# Altium footprint library SD.PcbLib: 1 footprints
Each footprint in its own frame and in the unit in brackets; x right, y up, seen from the top. Pads: shape width x height; smd on the part's side, far side on the other; paste and mask are expansions set on the pad; w line width, h text height; cw(c..) or ccw(c..) is an arc to the next point about the centre after c.
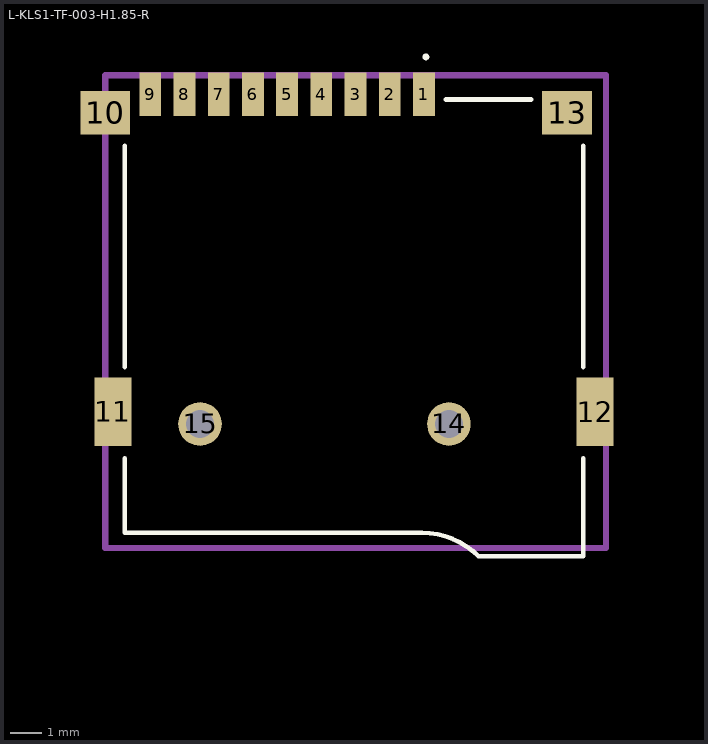
[diagram p0: the footprint, top view; thin cyan lines are the x and y axes]

## L-KLS1-TF-003-H1.85-R [mm]
pads (15):
  rect 0.7x1.4 smd: 1(2249.901,2258.251) 2(2248.801,2258.251) 3(2247.701,2258.251) 4(2246.601,2258.251) 5(2245.501,2258.251) 6(2244.401,2258.251) 7(2243.301,2258.251) 8(2242.201,2258.251) 9(2241.101,2258.251)
  rect 1.6x1.4 smd: 10(2239.651,2257.651) 13(2254.501,2257.651)
  rect 1.2x2.2 smd: 11(2239.901,2248.051) 12(2255.401,2248.051)
  round 1.4 hole 0.9: 14(2250.701,2247.651) 15(2242.701,2247.651)
Top Overlay:
  circle w0.15: c2249.962,2259.453 r0.034
  lines w0.15: 2240.276,2246.547 2240.276,2244.151 2247.401,2244.151 2249.84,2244.151 cw(c2249.84,2241.59) 2251.651,2243.401 2255.026,2243.401 2255.026,2246.547 ; 2240.276,2249.486 2240.276,2256.601 ; 2250.601,2258.082 2253.349,2258.082 ; 2255.026,2249.486 2255.026,2256.601
Assembly:
  lines w0.2: 2239.651,2243.661 2239.651,2258.863 2255.751,2258.863 2255.751,2243.661 2239.651,2243.661
3D body "L-KLS1-TF-003-H1.85-R.stp": height 1.85, standoff -0.6, extent -30488,-30483.99 -30471.9,-30468.787